# Altium schematic symbol library EDA.SchLib: 13 symbols
Pins are listed as number, name and electrical type; pins without a type are passive.

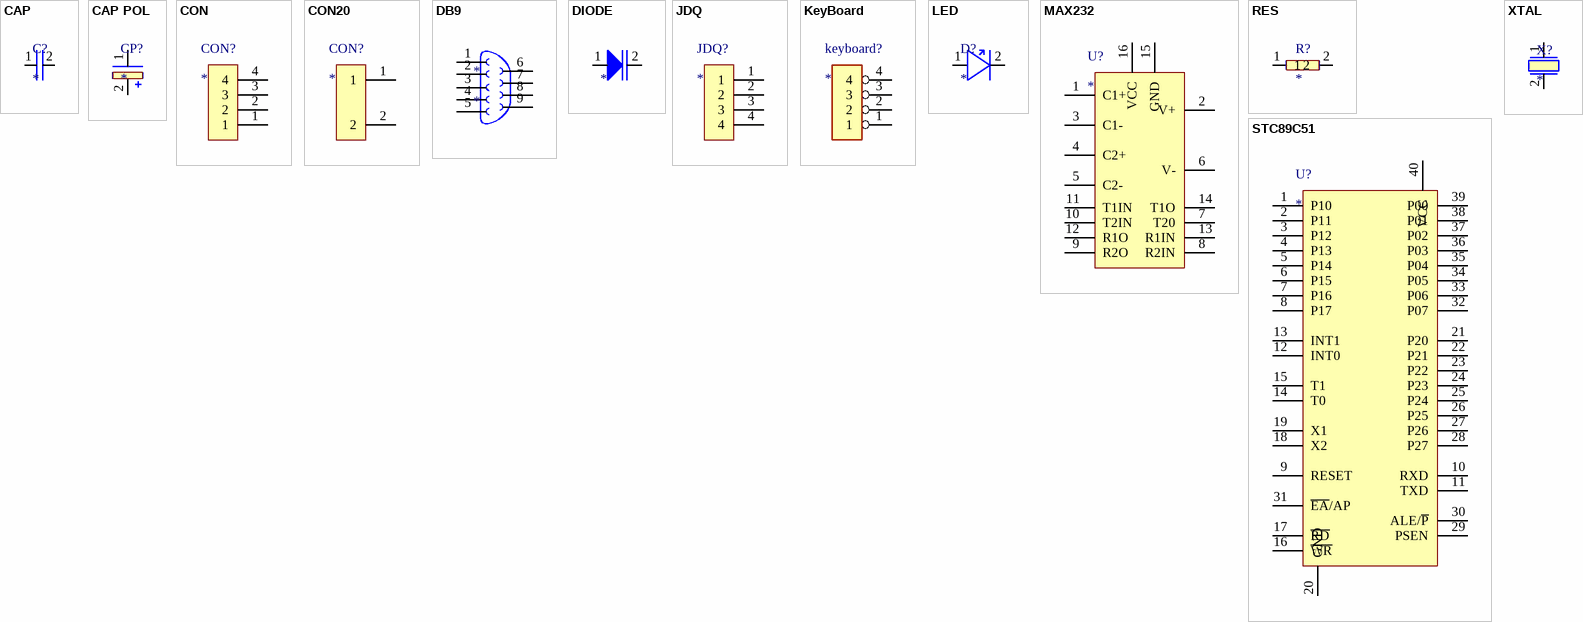
[diagram p0: symbols CAP to XTAL]

## CAP
designator C?
footprint CAP
pins: 1, 2

## CAP POL
designator CP?
footprint CAP POL
pins: 1, 2

## CON
designator CON?
footprint CON
pins: 1, 2, 3, 4

## CON20
designator CON?
footprint CON20
pins: 1, 2

## DB9
designator *
footprint DB9
pins: 1, 2, 3, 4, 5, 6, 7, 8, 9

## DIODE
designator ?
footprint DIODE
pins: 1, 2

## JDQ
designator JDQ?
footprint CON
pins: 1, 2, 3, 4

## KeyBoard
designator keyboard?
footprint CON
pins: 1, 2, 3, 4

## LED
designator D?
footprint LED
pins: 1, 2

## MAX232
designator U?
footprint DIP-16 (Footprint not found)
pins: 1 C1+, 2 V+, 3 C1-, 4 C2+, 5 C2-, 6 V-, 7 T20, 8 R2IN, 9 R2O, 10 T2IN, 11 T1IN, 12 R1O, 13 R1IN, 14 T1O, 15 GND, 16 VCC

## RES
designator R?
footprint RES
pins: 1, 2

## STC89C51
designator U?
footprint STC89C51 (SOJ, 40-Leads, Body 25.00x8.81mm, Pitch 1.27mm, IPC High Density)
pins: 1 P10, 2 P11, 3 P12, 4 P13, 5 P14, 6 P15, 7 P16, 8 P17, 9 RESET, 10 RXD, 11 TXD, 12 INT0, 13 INT1, 14 T0, 15 T1, 16 ~{WR}, 17 ~{RD}, 18 X2, 19 X1, 20 GND, 21 P20, 22 P21, 23 P22, 24 P23, 25 P24, 26 P25, 27 P26, 28 P27, 29 PSEN, 30 ALE/~{P}, 31 ~{EA}/AP, 32 P07, 33 P06, 34 P05, 35 P04, 36 P03, 37 P02, 38 P01, 39 P00, 40 VCC

## XTAL
designator X?
footprint XTAL
pins: 1, 2